# EAGLE library part ESP-8266 (library BRD-esp8266modules)
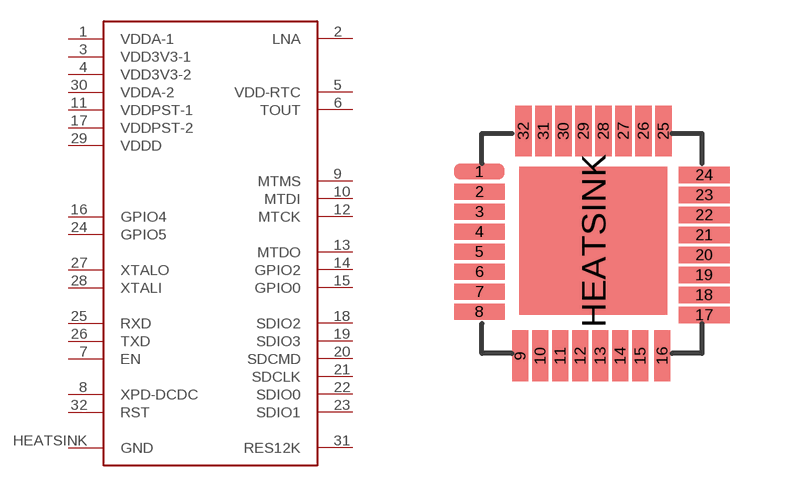
[diagram p17: symbol with the pads of QFN32; footprint QFN32]

Designator prefix -

## ESP-8266  [QFN32]
1  VDDA-1
2  LNA
3  VDD3V3-1
4  VDD3V3-2
5  VDD-RTC
6  TOUT
7  EN
8  XPD-DCDC
9  MTMS
10  MTDI
11  VDDPST-1
12  MTCK
13  MTDO
14  GPIO2
15  GPIO0
16  GPIO4
17  VDDPST-2
18  SDIO2
19  SDIO3
20  SDCMD
21  SDCLK
22  SDIO0
23  SDIO1
24  GPIO5
25  RXD
26  TXD
27  XTALO
28  XTALI
29  VDDD
30  VDDA-2
31  RES12K
32  RST
HEATSINK  GND

## Footprint QFN32 (pad centres in mm)
smd 1.27 x 0.406: 1 -2.81,1.79; 2 -2.81,1.29; 3 -2.81,0.79; 4 -2.81,0.29; 5 -2.81,-0.21; 6 -2.81,-0.71; 7 -2.81,-1.21; 8 -2.81,-1.71; 17 2.81,-1.79; 18 2.81,-1.29; 19 2.81,-0.79; 20 2.81,-0.29; 21 2.81,0.21; 22 2.81,0.71; 23 2.81,1.21; 24 2.81,1.71
smd 0.406 x 1.27: 9 -1.79,-2.81; 10 -1.29,-2.81; 11 -0.79,-2.81; 12 -0.29,-2.81; 13 0.21,-2.81; 14 0.71,-2.81; 15 1.21,-2.81; 16 1.76,-2.81; 25 1.79,2.81; 26 1.29,2.81; 27 0.79,2.81; 28 0.29,2.81; 29 -0.21,2.81; 30 -0.71,2.81; 31 -1.21,2.81; 32 -1.71,2.81
smd 3.7 x 3.7: HEATSINK 0.04,0.06